# EAGLE library part OOBD-TIGER-AM3352-SOM (library OOBDtiger-Connector)
OOBD-Tiger AM3352-SOM Interface
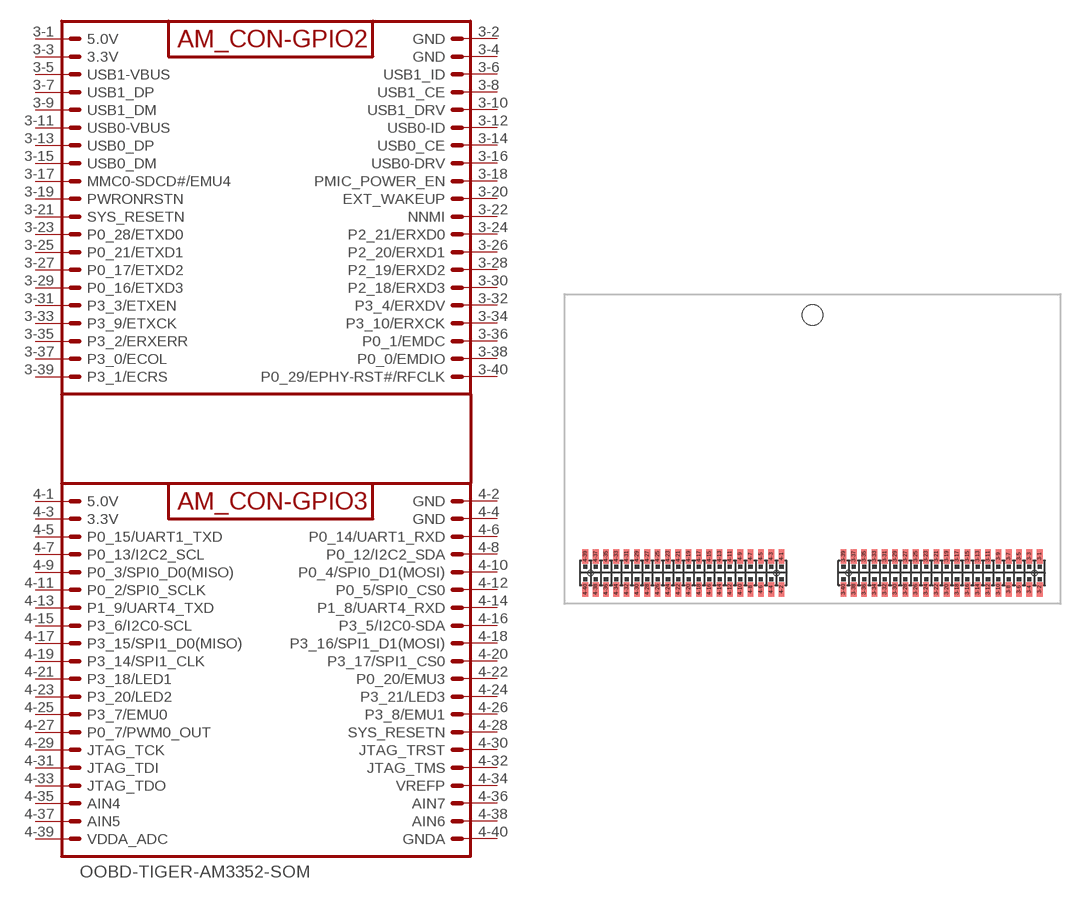
[diagram p0: symbol with the pads of OOBD-TIGER-AM3352-SOM; footprint OOBD-TIGER-AM3352-SOM]

Designator prefix OOBD-TIGER-AM3352-SOM

## OOBD-TIGER-AM3352-SOM---4XGPH127SMT-02X20(PA-V16X-2X20-LF)  [OOBD-TIGER-AM3352-SOM]
3-1  5.0V  pas
3-2  GND  pas
3-3  3.3V  pas
3-4  GND  pas
3-5  USB1-VBUS  pas
3-6  USB1_ID  pas
3-7  USB1_DP  pas
3-8  USB1_CE  pas
3-9  USB1_DM  pas
3-10  USB1_DRV  pas
3-11  USB0-VBUS  pas
3-12  USB0-ID  pas
3-13  USB0_DP  pas
3-14  USB0_CE  pas
3-15  USB0_DM  pas
3-16  USB0-DRV  pas
3-17  MMC0-SDCD#/EMU4  pas
3-18  PMIC_POWER_EN  pas
3-19  PWRONRSTN  pas
3-20  EXT_WAKEUP  pas
3-21  SYS_RESETN  pas
3-22  NNMI  pas
3-23  P0_28/ETXD0  pas
3-24  P2_21/ERXD0  pas
3-25  P0_21/ETXD1  pas
3-26  P2_20/ERXD1  pas
3-27  P0_17/ETXD2  pas
3-28  P2_19/ERXD2  pas
3-29  P0_16/ETXD3  pas
3-30  P2_18/ERXD3  pas
3-31  P3_3/ETXEN  pas
3-32  P3_4/ERXDV  pas
3-33  P3_9/ETXCK  pas
3-34  P3_10/ERXCK  pas
3-35  P3_2/ERXERR  pas
3-36  P0_1/EMDC  pas
3-37  P3_0/ECOL  pas
3-38  P0_0/EMDIO  pas
3-39  P3_1/ECRS  pas
3-40  P0_29/EPHY-RST#/RFCLK  pas
4-1  5.0V  pas
4-2  GND  pas
4-3  3.3V  pas
4-4  GND  pas
4-5  P0_15/UART1_TXD  pas
4-6  P0_14/UART1_RXD  pas
4-7  P0_13/I2C2_SCL  pas
4-8  P0_12/I2C2_SDA  pas
4-9  P0_3/SPI0_D0(MISO)  pas
4-10  P0_4/SPI0_D1(MOSI)  pas
4-11  P0_2/SPI0_SCLK  pas
4-12  P0_5/SPI0_CS0  pas
4-13  P1_9/UART4_TXD  pas
4-14  P1_8/UART4_RXD  pas
4-15  P3_6/I2C0-SCL  pas
4-16  P3_5/I2C0-SDA  pas
4-17  P3_15/SPI1_D0(MISO)  pas
4-18  P3_16/SPI1_D1(MOSI)  pas
4-19  P3_14/SPI1_CLK  pas
4-20  P3_17/SPI1_CS0  pas
4-21  P3_18/LED1  pas
4-22  P0_20/EMU3  pas
4-23  P3_20/LED2  pas
4-24  P3_21/LED3  pas
4-25  P3_7/EMU0  pas
4-26  P3_8/EMU1  pas
4-27  P0_7/PWM0_OUT  pas
4-28  SYS_RESETN  pas
4-29  JTAG_TCK  pas
4-30  JTAG_TRST  pas
4-31  JTAG_TDI  pas
4-32  JTAG_TMS  pas
4-33  JTAG_TDO  pas
4-34  VREFP  pas
4-35  AIN4  pas
4-36  AIN7  pas
4-37  AIN5  pas
4-38  AIN6  pas
4-39  VDDA_ADC  pas
4-40  GNDA  pas

## Footprint OOBD-TIGER-AM3352-SOM (pad centres in mm)
This package and element was created by Penko Bozhkov and modified by Michael Luxen
smd 0.7 x 1.8: 3-1 27.94,-13.208; 3-2 27.94,-17.272; 3-3 26.67,-13.208; 3-4 26.67,-17.272; 3-5 25.4,-13.208; 3-6 25.4,-17.272; 3-7 24.13,-13.208; 3-8 24.13,-17.272; 3-9 22.86,-13.208; 3-10 22.86,-17.272; 3-11 21.59,-13.208; 3-12 21.59,-17.272; 3-13 20.32,-13.208; 3-14 20.32,-17.272; 3-15 19.05,-13.208; 3-16 19.05,-17.272; 3-17 17.78,-13.208; 3-18 17.78,-17.272; 3-19 16.51,-13.208; 3-20 16.51,-17.272; 3-21 15.24,-13.208; 3-22 15.24,-17.272; 3-23 13.97,-13.208; 3-24 13.97,-17.272; 3-25 12.7,-13.208; 3-26 12.7,-17.272; 3-27 11.43,-13.208; 3-28 11.43,-17.272; 3-29 10.16,-13.208; 3-30 10.16,-17.272; 3-31 8.89,-13.208; 3-32 8.89,-17.272; 3-33 7.62,-13.208; 3-34 7.62,-17.272; 3-35 6.35,-13.208; 3-36 6.35,-17.272; 3-37 5.08,-13.208; 3-38 5.08,-17.272; 3-39 3.81,-13.208; 3-40 3.81,-17.272; 4-1 -3.81,-13.208; 4-2 -3.81,-17.272; 4-3 -5.08,-13.208; 4-4 -5.08,-17.272; 4-5 -6.35,-13.208; 4-6 -6.35,-17.272; 4-7 -7.62,-13.208; 4-8 -7.62,-17.272; 4-9 -8.89,-13.208; 4-10 -8.89,-17.272; 4-11 -10.16,-13.208; 4-12 -10.16,-17.272; 4-13 -11.43,-13.208; 4-14 -11.43,-17.272; 4-15 -12.7,-13.208; 4-16 -12.7,-17.272; 4-17 -13.97,-13.208; 4-18 -13.97,-17.272; 4-19 -15.24,-13.208; 4-20 -15.24,-17.272; 4-21 -16.51,-13.208; 4-22 -16.51,-17.272; 4-23 -17.78,-13.208; 4-24 -17.78,-17.272; 4-25 -19.05,-13.208; 4-26 -19.05,-17.272; 4-27 -20.32,-13.208; 4-28 -20.32,-17.272; 4-29 -21.59,-13.208; 4-30 -21.59,-17.272; 4-31 -22.86,-13.208; 4-32 -22.86,-17.272; 4-33 -24.13,-13.208; 4-34 -24.13,-17.272; 4-35 -25.4,-13.208; 4-36 -25.4,-17.272; 4-37 -26.67,-13.208; 4-38 -26.67,-17.272; 4-39 -27.94,-13.208; 4-40 -27.94,-17.272
hole 0.7 at 27.305,-15.24
hole 0.7 at 4.445,-15.24
hole 0.7 at -4.445,-15.24
hole 0.7 at -27.305,-15.24